# Altium schematic symbol library CONN-2.SchLib: 1 symbol
Pins are listed as number, name and electrical type; pins without a type are passive.

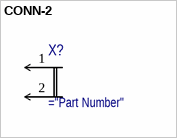
[diagram p0: symbol CONN-2]

## CONN-2
designator X?
pins: 1, 2